# EAGLE library part PAC82C250 (library PAC82C250)
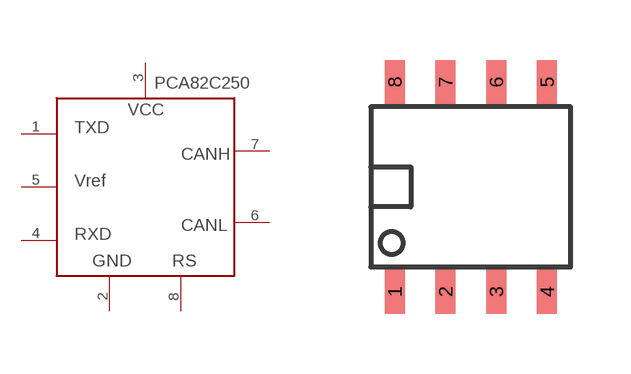
[diagram p0: symbol with the pads of PAC82C250; footprint PAC82C250]

Designator prefix -

## PAC82C250  [PAC82C250]
1  TXD
2  GND  pwr
3  VCC  pwr
4  RXD
5  VREF
6  CANL
7  CANH
8  RS

## Footprint PAC82C250 (pad centres in mm)
smd 0.5 x 1.1: 1 -1.71,-2.57; 2 -0.44,-2.57; 3 0.83,-2.57; 4 2.1,-2.57; 5 2.1,2.67; 6 0.83,2.67; 7 -0.44,2.67; 8 -1.71,2.67